# EAGLE library part A8499SLJT (library my-allegro)
A8499SLJT Allegro Microsystems Step-Down regulator, 8V-50V, 1.5A, SO8
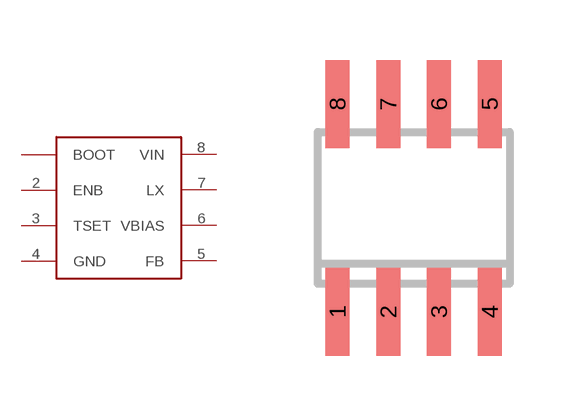
[diagram p0: symbol with the pads of SO08; footprint SO08]

Designator prefix -

## A8499SLJT  [SO08]
1  BOOT  sup
2  ENB  pwr
3  TSET  pwr
4  GND  pwr
5  FB  pwr
6  VBIAS  pwr
7  LX  pwr
8  VIN  pwr

## Footprint SO08 (pad centres in mm)
SO8 package
smd 0.6 x 2.2: 1 -1.905,-2.6; 2 -0.635,-2.6; 3 0.635,-2.6; 4 1.905,-2.6; 5 1.905,2.6; 6 0.635,2.6; 7 -0.635,2.6; 8 -1.905,2.6